# EAGLE library part CLP-112-XX-X-DH-XX_S (library con-samtec-clp)
RECEPTACAL
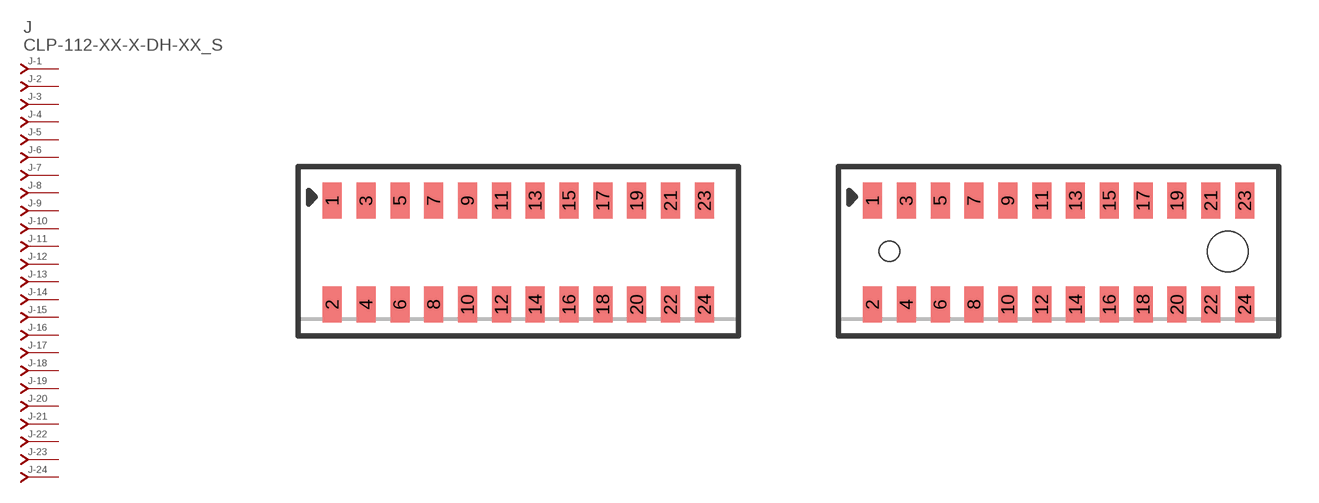
[diagram p17: symbol with the pads of CLP-112-XX-X-DH; footprints CLP-112-XX-X-DH, CLP-112-XX-X-DH-A]

Designator prefix J; gates -1=J-NV -2=J-N -3=J-N -4=J-N -5=J-N -6=J-N -7=J-N -8=J-N -9=J-N -10=J-N -11=J-N -12=J-N -13=J-N -14=J-N -15=J-N -16=J-N -17=J-N -18=J-N -19=J-N -20=J-N -21=J-N -22=J-N -23=J-N -24=J-N

## CLP-112-XX-X-DH-XX_S  [CLP-112-XX-X-DH]
1  -1:J  pas
2  -2:J  pas
3  -3:J  pas
4  -4:J  pas
5  -5:J  pas
6  -6:J  pas
7  -7:J  pas
8  -8:J  pas
9  -9:J  pas
10  -10:J  pas
11  -11:J  pas
12  -12:J  pas
13  -13:J  pas
14  -14:J  pas
15  -15:J  pas
16  -16:J  pas
17  -17:J  pas
18  -18:J  pas
19  -19:J  pas
20  -20:J  pas
21  -21:J  pas
22  -22:J  pas
23  -23:J  pas
24  -24:J  pas

## CLP-112-XX-X-DH-XX_SA  [CLP-112-XX-X-DH-A]
Pads as for CLP-112-XX-X-DH

## Footprint CLP-112-XX-X-DH (pad centres in mm)
RECEPTACAL
smd 0.711 x 1.346: 1 -6.985,1.905; 2 -6.985,-1.994; 3 -5.715,1.905; 4 -5.715,-1.994; 5 -4.445,1.905; 6 -4.445,-1.994; 7 -3.175,1.905; 8 -3.175,-1.994; 9 -1.905,1.905; 10 -1.905,-1.994; 11 -0.635,1.905; 12 -0.635,-1.994; 13 0.635,1.905; 14 0.635,-1.994; 15 1.905,1.905; 16 1.905,-1.994; 17 3.175,1.905; 18 3.175,-1.994; 19 4.445,1.905; 20 4.445,-1.994; 21 5.715,1.905; 22 5.715,-1.994; 23 6.985,1.905; 24 6.985,-1.994

## Footprint CLP-112-XX-X-DH-A (pad centres in mm)
RECEPTACAL
smd 0.711 x 1.346: 1 -6.985,1.905; 2 -6.985,-1.994; 3 -5.715,1.905; 4 -5.715,-1.994; 5 -4.445,1.905; 6 -4.445,-1.994; 7 -3.175,1.905; 8 -3.175,-1.994; 9 -1.905,1.905; 10 -1.905,-1.994; 11 -0.635,1.905; 12 -0.635,-1.994; 13 0.635,1.905; 14 0.635,-1.994; 15 1.905,1.905; 16 1.905,-1.994; 17 3.175,1.905; 18 3.175,-1.994; 19 4.445,1.905; 20 4.445,-1.994; 21 5.715,1.905; 22 5.715,-1.994; 23 6.985,1.905; 24 6.985,-1.994
hole 0.762 at -6.35,0
hole 1.524 at 6.35,0